# EAGLE library part PROMINI (library sj_arduino)
Arduino Pro Mini
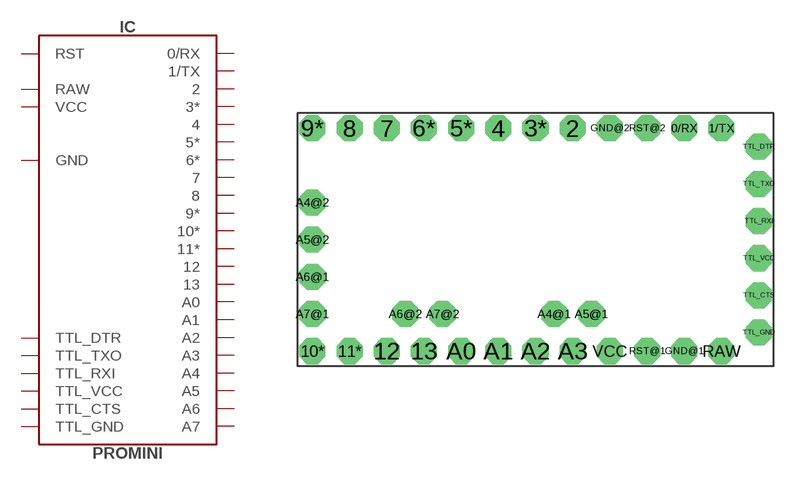
[diagram p1: symbol with the pads of PROMINI; footprint PROMINI]

Designator prefix IC

## PROMINI  [PROMINI]
0/RX  0/RX
1/TX  1/TX
2  2
3*  3*
4  4
5*  5*
6*  6*
7  7
8  8
9*  9*
10*  10*
11*  11*
12  12
13  13
A0  A0
A1  A1
A2  A2
A3  A3
A4@1  A4
A4@2  A4
A5@1  A5
A5@2  A5
A6@1  A6
A6@2  A6
A7@1  A7
A7@2  A7
GND@1  GND
GND@2  GND
RAW  RAW
RST@1  RST
RST@2  RST
TTL_CTS  TTL_CTS
TTL_DTR  TTL_DTR
TTL_GND  TTL_GND
TTL_RXI  TTL_RXI
TTL_TXO  TTL_TXO
TTL_VCC  TTL_VCC
VCC  VCC

## Footprint PROMINI (pad centres in mm)
Arduino Pro Mini Package (Type A)
drill 0.838 pad 1.778 octagon: 0/RX 10.16,7.62; 1/TX 12.7,7.62; 2 2.54,7.62; 3* 0,7.62; 4 -2.54,7.62; 5* -5.08,7.62; 6* -7.62,7.62; 7 -10.16,7.62; 8 -12.7,7.62; 9* -15.24,7.62; 10* -15.24,-7.62; 11* -12.7,-7.62; 12 -10.16,-7.62; 13 -7.62,-7.62; A0 -5.08,-7.62; A1 -2.54,-7.62; A2 0,-7.62; A3 2.54,-7.62; A4@1 1.27,-5.08; A4@2 -15.24,2.54; A5@1 3.81,-5.08; A5@2 -15.24,0; A6@1 -15.24,-2.54; A6@2 -8.89,-5.08; A7@1 -15.24,-5.08; A7@2 -6.35,-5.08; GND@1 10.16,-7.62; GND@2 5.08,7.62; RAW 12.7,-7.62; RST@1 7.62,-7.62; RST@2 7.62,7.62; TTL_CTS 15.24,-3.81; TTL_DTR 15.24,6.35; TTL_GND 15.24,-6.35; TTL_RXI 15.24,1.27; TTL_TXO 15.24,3.81; TTL_VCC 15.24,-1.27; VCC 5.08,-7.62